# EAGLE library part HEADER_MALE-2X03 (library MMC Eagle)
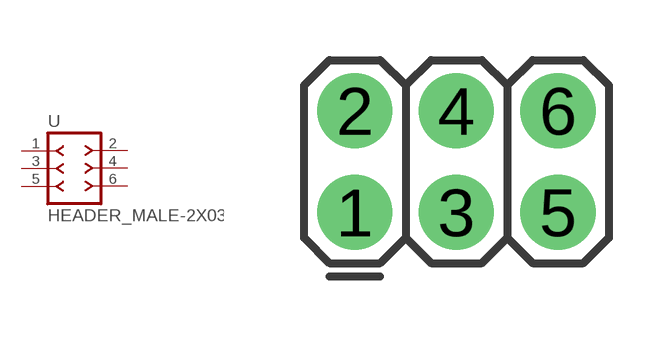
[diagram p21: symbol with the pads of HEADER_MALE-2X3; footprint HEADER_MALE-2X3]

Designator prefix -

## HEADER_MALE-2X03  [HEADER_MALE-2X3]
1  1  pas
2  2  pas
3  3  pas
4  4  pas
5  5  pas
6  6  pas

## Footprint HEADER_MALE-2X3 (pad centres in mm)
Plated Through Hole - 2x3 Specifications: Pin count:6 Pin pitch:0.1" Example device(s): CONN_03x2
drill 1.016 pad 1.88: 1 0,0; 2 0,2.54; 3 2.54,0; 4 2.54,2.54; 5 5.08,0; 6 5.08,2.54